# Altium schematic symbol library NCD57100DWR2G.SchLib: 1 symbol
Pins are listed as number, name and electrical type; pins without a type are passive.

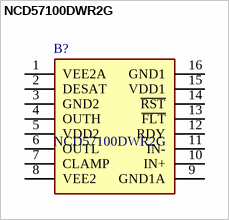
[diagram p0: symbol NCD57100DWR2G]

## NCD57100DWR2G
designator B?
High Current Output(+/-7 A) at Miller Plateau Voltages; Short Propagation Delays with Accurate Matching; DESAT with Soft Turn Off; Active Miller Clamp and Negative Gate Voltage; High Transient & Electromagnetic Immunity; 5 kV Galvanic Isolation; Manufacturer_Name: onsemi; Geometry.Height: 2.65mm; Mouser Part Number: 863-NCD57100DWR2G; Mouser Price/Stock: https://www.mouser.co.uk/ProductDetail/onsemi/NCD57100DWR2G?qs=vvQtp7zwQdOcYrqkXGsoBw%3D%3D; Manufacturer_Part_Number: NCD57100DWR2G; Datasheet Link: https://www.onsemi.com/pub/Collateral/NCD57100-D.PDF
footprint SOIC127P1030X265-16N
pins: 1 VEE2A, 2 DESAT, 3 GND2, 4 OUTH, 5 VDD2, 6 OUTL, 7 CLAMP, 8 VEE2, 9 GND1A, 10 IN+, 11 IN-, 12 RDY, 13 ~{FLT}, 14 ~{RST}, 15 VDD1, 16 GND1